# EAGLE library part RF6505 (library openmotestm)
RF6050 3.5mm*3.5mm QFN 20
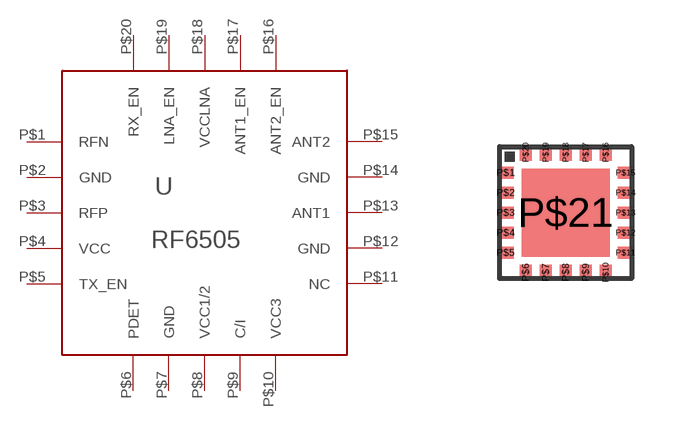
[diagram p6: symbol with the pads of QFN-20; footprint QFN-20]

Designator prefix -

## RF6505  [QFN-20]
P$1  RFN
P$2  GND
P$3  RFP
P$4  VCC
P$5  TX_EN
P$6  PDET
P$7  GND
P$8  VCC1/2
P$9  C/I
P$10  VCC3
P$11  NC
P$12  GND
P$13  ANT1
P$14  GND
P$15  ANT2
P$16  ANT2_EN
P$17  ANT1_EN
P$18  VCCLNA
P$19  LNA_EN
P$20  RX_EN

## Footprint QFN-20 (pad centres in mm)
RF6505
smd 0.4 x 0.3: P$1 -1.5,1; P$2 -1.5,0.5; P$3 -1.5,0; P$4 -1.5,-0.5; P$5 -1.5,-1; P$11 1.5,-1; P$12 1.5,-0.5; P$13 1.5,0; P$14 1.5,0.5; P$15 1.5,1
smd 0.3 x 0.4: P$6 -1,-1.5; P$7 -0.5,-1.5; P$8 0,-1.5; P$9 0.5,-1.5; P$10 1,-1.5; P$16 1,1.5; P$17 0.5,1.5; P$18 0,1.5; P$19 -0.5,1.5; P$20 -1,1.5
smd 2.2 x 2.2: P$21 0,0